# Altium schematic symbol library EE40101S1-1000U-999.SchLib: 1 symbol
Pins are listed as number, name and electrical type; pins without a type are passive.

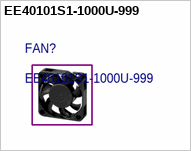
[diagram p0: symbol EE40101S1-1000U-999]

## EE40101S1-1000U-999
designator FAN?
DC Fans DC Fan, 40x10mm, 12VDC, 8.2CFM, 0.99W, 28.2dBA, 7300RPM, 0.19inch H2O, Sleeve Bearing